# Altium footprint library PcbLib1.PcbLib: 6 footprints
Each footprint in its own frame and in the unit in brackets; x right, y up, seen from the top. Pads: shape width x height; smd on the part's side, far side on the other; paste and mask are expansions set on the pad; w line width, h text height; cw(c..) or ccw(c..) is an arc to the next point about the centre after c.
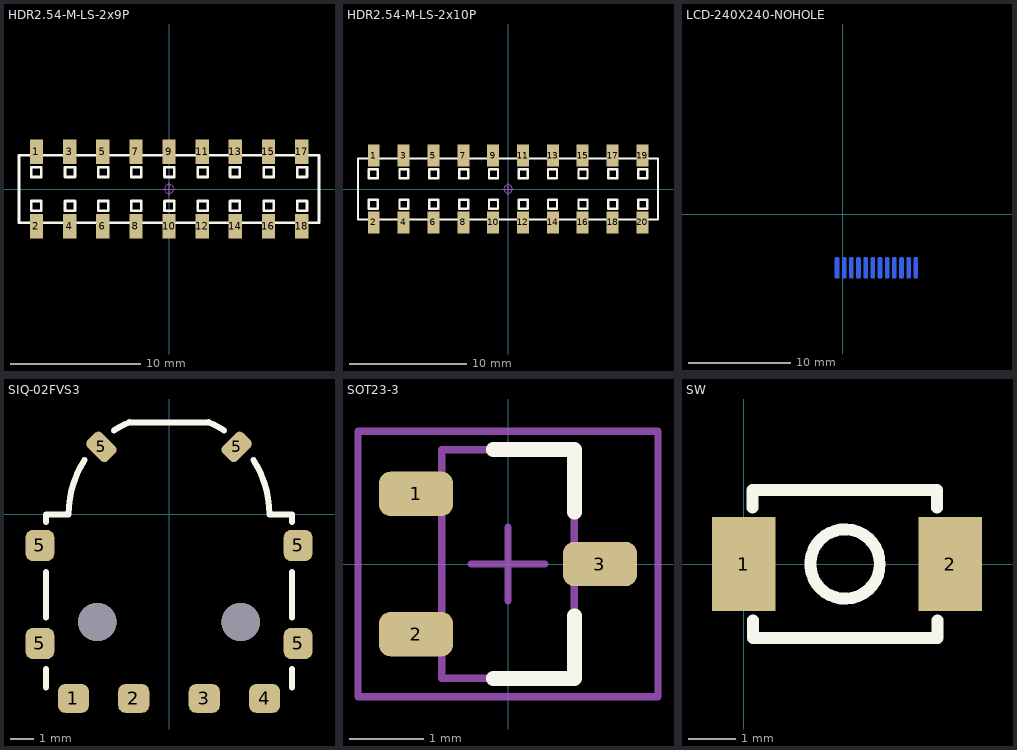
[diagram p0: the footprints below, top view; thin cyan lines are the x and y axes]

## HDR2.54-M-LS-2x9P [mm] "脚距：2.54mm，贴片双排母"
pads (18):
  rect 1.02x1.9 smd: 1(-10.16,2.85) 2(-10.16,-2.85) 3(-7.62,2.85) 4(-7.62,-2.85) 5(-5.08,2.85) 6(-5.08,-2.85) 7(-2.54,2.85) 8(-2.54,-2.85) 9(0,2.85) 10(0,-2.85) 11(2.54,2.85) 12(2.54,-2.85) 13(5.08,2.85) 14(5.08,-2.85) 15(7.62,2.85) 16(7.62,-2.85) 17(10.16,2.85) 18(10.16,-2.85)
Top Overlay:
  lines w0.2: -11.5,-2.6 11.49,-2.6 11.49,2.6 -11.5,2.6 -11.5,-2.6 ; -10.571,-1.681 -10.571,-0.919 -9.809,-0.919 -9.809,-1.681 -10.571,-1.681 ; -10.571,0.919 -10.571,1.681 -9.809,1.681 -9.809,0.919 -10.571,0.919 ; -7.971,-1.681 -7.971,-0.919 -7.209,-0.919 -7.209,-1.681 -7.971,-1.681 ; -7.971,0.919 -7.971,1.681 -7.209,1.681 -7.209,0.919 -7.971,0.919 ; -5.431,-1.681 -4.669,-1.681 -4.669,-0.919 -5.431,-0.919 -5.431,-1.681 ; -5.431,0.919 -4.669,0.919 -4.669,1.681 -5.431,1.681 -5.431,0.919 ; -2.891,-1.681 -2.891,-0.919 -2.129,-0.919 -2.129,-1.681 -2.891,-1.681 ; -2.891,0.919 -2.891,1.681 -2.129,1.681 -2.129,0.919 -2.891,0.919 ; -0.351,-1.681 -0.351,-0.919 0.411,-0.919 0.411,-1.681 -0.351,-1.681 ; -0.351,0.919 -0.351,1.681 0.411,1.681 0.411,0.919 -0.351,0.919 ; 2.189,-1.681 2.189,-0.919 2.951,-0.919 2.951,-1.681 2.189,-1.681 ; 2.189,0.919 2.189,1.681 2.951,1.681 2.951,0.919 2.189,0.919 ; 4.669,-1.681 5.431,-1.681 5.431,-0.919 4.669,-0.919 4.669,-1.681 ; 4.669,0.919 5.431,0.919 5.431,1.681 4.669,1.681 4.669,0.919 ; 7.269,-1.681 8.031,-1.681 8.031,-0.919 7.269,-0.919 7.269,-1.681 ; 7.269,0.919 8.031,0.919 8.031,1.681 7.269,1.681 7.269,0.919 ; 9.809,-1.681 9.809,-0.919 10.571,-0.919 10.571,-1.681 9.809,-1.681 ; 9.809,0.919 9.809,1.681 10.571,1.681 10.571,0.919 9.809,0.919
Mechanical 15:
  circle w0.05: c0,0 r0.35
  lines w0.05: -0.5,0 0.5,0 ; 0,-0.5 0,0.5
3D body "HDR2.54 2x1P_M.STEP": height 5.15, standoff 0, extent -6.38,-3.2 -3.78,3.2
3D body "HDR2.54 2x1P_M.STEP": height 5.15, standoff 0, extent -8.92,-3.2 -6.32,3.2
3D body "HDR2.54 2x1P_M.STEP": height 5.15, standoff 0, extent -11.46,-3.2 -8.86,3.2
3D body "HDR2.54 2x1P_M.STEP": height 5.15, standoff 0, extent -3.84,-3.2 -1.24,3.2
3D body "HDR2.54 2x1P_M.STEP": height 5.15, standoff 0, extent -1.3,-3.2 1.3,3.2
3D body "HDR2.54 2x1P_M.STEP": height 5.15, standoff 0, extent 1.24,-3.2 3.84,3.2
3D body "HDR2.54 2x1P_M.STEP": height 5.15, standoff 0, extent 3.78,-3.2 6.38,3.2
3D body "HDR2.54 2x1P_M.STEP": height 5.15, standoff 0, extent 6.32,-3.2 8.92,3.2
3D body "HDR2.54 2x1P_M.STEP": height 5.15, standoff 0, extent 8.86,-3.2 11.46,3.2

## HDR2.54-M-LS-2x10P [mm] "脚距：2.54mm，贴片双排母"
pads (20):
  rect 1.02x1.9 smd: 1(-11.43,2.85) 2(-11.43,-2.85) 3(-8.89,2.85) 4(-8.89,-2.85) 5(-6.35,2.85) 6(-6.35,-2.85) 7(-3.81,2.85) 8(-3.81,-2.85) 9(-1.27,2.85) 10(-1.27,-2.85) 11(1.27,2.85) 12(1.27,-2.85) 13(3.81,2.85) 14(3.81,-2.85) 15(6.35,2.85) 16(6.35,-2.85) 17(8.89,2.85) 18(8.89,-2.85) 19(11.43,2.85) 20(11.43,-2.85)
Top Overlay:
  lines w0.2: -12.77,-2.6 -12.77,2.6 12.76,2.6 12.76,-2.6 -12.77,-2.6 ; -11.841,-1.681 -11.079,-1.681 -11.079,-0.919 -11.841,-0.919 -11.841,-1.681 ; -11.841,0.919 -11.079,0.919 -11.079,1.681 -11.841,1.681 -11.841,0.919 ; -9.241,-1.681 -8.479,-1.681 -8.479,-0.919 -9.241,-0.919 -9.241,-1.681 ; -9.241,0.919 -8.479,0.919 -8.479,1.681 -9.241,1.681 -9.241,0.919 ; -6.701,-1.681 -6.701,-0.919 -5.939,-0.919 -5.939,-1.681 -6.701,-1.681 ; -6.701,0.919 -6.701,1.681 -5.939,1.681 -5.939,0.919 -6.701,0.919 ; -4.161,-1.681 -3.399,-1.681 -3.399,-0.919 -4.161,-0.919 -4.161,-1.681 ; -4.161,0.919 -3.399,0.919 -3.399,1.681 -4.161,1.681 -4.161,0.919 ; -1.621,-1.681 -0.859,-1.681 -0.859,-0.919 -1.621,-0.919 -1.621,-1.681 ; -1.621,0.919 -0.859,0.919 -0.859,1.681 -1.621,1.681 -1.621,0.919 ; 0.919,-1.681 1.681,-1.681 1.681,-0.919 0.919,-0.919 0.919,-1.681 ; 0.919,0.919 1.681,0.919 1.681,1.681 0.919,1.681 0.919,0.919 ; 3.399,-1.681 3.399,-0.919 4.161,-0.919 4.161,-1.681 3.399,-1.681 ; 3.399,0.919 3.399,1.681 4.161,1.681 4.161,0.919 3.399,0.919 ; 5.999,-1.681 5.999,-0.919 6.761,-0.919 6.761,-1.681 5.999,-1.681 ; 5.999,0.919 5.999,1.681 6.761,1.681 6.761,0.919 5.999,0.919 ; 8.539,-1.681 9.301,-1.681 9.301,-0.919 8.539,-0.919 8.539,-1.681 ; 8.539,0.919 9.301,0.919 9.301,1.681 8.539,1.681 8.539,0.919 ; 11.079,-1.681 11.079,-0.919 11.841,-0.919 11.841,-1.681 11.079,-1.681 ; 11.079,0.919 11.079,1.681 11.841,1.681 11.841,0.919 11.079,0.919
Mechanical 15:
  circle w0.05: c0,0 r0.35
  lines w0.05: -0.5,0 0.5,0 ; 0,-0.5 0,0.5
3D body "HDR2.54 2x1P_M.STEP": height 5.15, standoff 0, extent 10.13,-3.2 12.73,3.2
3D body "HDR2.54 2x1P_M.STEP": height 5.15, standoff 0, extent 7.59,-3.2 10.19,3.2
3D body "HDR2.54 2x1P_M.STEP": height 5.15, standoff 0, extent 5.05,-3.2 7.65,3.2
3D body "HDR2.54 2x1P_M.STEP": height 5.15, standoff 0, extent 2.51,-3.2 5.11,3.2
3D body "HDR2.54 2x1P_M.STEP": height 5.15, standoff 0, extent -0.03,-3.2 2.57,3.2
3D body "HDR2.54 2x1P_M.STEP": height 5.15, standoff 0, extent -2.57,-3.2 0.03,3.2
3D body "HDR2.54 2x1P_M.STEP": height 5.15, standoff 0, extent -5.11,-3.2 -2.51,3.2
3D body "HDR2.54 2x1P_M.STEP": height 5.15, standoff 0, extent -12.73,-3.2 -10.13,3.2
3D body "HDR2.54 2x1P_M.STEP": height 5.15, standoff 0, extent -10.19,-3.2 -7.59,3.2
3D body "HDR2.54 2x1P_M.STEP": height 5.15, standoff 0, extent -7.65,-3.2 -5.05,3.2

## LCD-240X240-NOHOLE [mil]
height 31.5
pads (12):
  rrect50% 15.75x80 smd far side: 1(282,-207) 2(254.44,-207) 3(226.88,-207) 4(199.32,-207) 5(171.76,-207) 6(144.2,-207) 7(116.65,-207) 8(89.09,-207) 9(61.53,-207) 10(33.97,-207) 11(6.41,-207) 12(-21.15,-207)
Bottom Overlay:
  lines w10: -499.3,-481 533.7,-481 533.7,674 -499.3,674 -499.3,-481
3D body "tft.step": height 19.59, standoff -116.35, extent -499.31,-565.47 533.69,673.34

## SIQ-02FVS3 [mm]
height 4.3
pads (10):
  rrect50% 1.3x1.2 smd: 1(-4,-7.7) 2(-1.475,-7.7) 3(1.475,-7.7) 4(4,-7.7)
  rrect50% 1.2x1.3 smd: 5(-5.4,-5.4) 5(-5.4,-1.3) 5(5.4,-5.4) 5(5.4,-1.3)
  rrect50% 0.85x1.2 smd rot 45: 5(-2.828,2.828)
  rrect50% 0.85x1.2 smd rot 135: 5(2.828,2.828)
via 3,-4.5 diameter 1.6 hole 1.6
via -3,-4.5 diameter 1.6 hole 1.6
Top Overlay:
  lines w0.254: -5.15,-7.25 -5.15,-6.477 ; -5.15,-4.318 -5.15,-2.402 ; -5.15,-0.324 -5.15,0 -4.2,0 cw(c0,0) -3.533,2.271 ; -2.298,3.515 cw(c0,0) -1.655,3.86 ; -1.655,3.85 1.655,3.85 ; 1.655,3.86 cw(c0,0) 2.298,3.515 ; 3.533,2.271 cw(c0,0) 4.2,0 5.15,0 5.15,-0.324 ; 5.15,-7.25 5.15,-6.477 ; 5.15,-4.318 5.15,-2.402
3D body "RE.step": height 4.06, standoff -0.44, extent -7.199,-7.5 7.199,7.25

## SOT23-3 [mm] "SOT23, 3-Leads, Body 3.1x3.0mm (max), Pitch 0.95mm, IPC Medium Density"
height 1.2
pads (3):
  rrect50% 1x0.6 smd: 1(-1.246,0.95) 2(-1.246,-0.95) 3(1.246,0)
Top Overlay:
  lines w0.2: -0.2,-1.55 0.9,-1.55 0.9,-0.7 ; -0.2,1.55 0.9,1.55 0.9,0.7
Mechanical 13:
  lines w0.1: -0.9,-1.55 0.9,-1.55 0.9,1.55 -0.9,1.55 -0.9,-1.55
Mechanical 15:
  lines w0.1: -0.5,0 0.5,0 ; 0,-0.5 0,0.5 ; -2.032,-1.8 2.032,-1.8 2.032,1.8 -2.032,1.8 -2.032,-1.8
3D body "SOT-23-3.stp": height 1.2, standoff 0, extent -1.298,-1.45 1.502,1.45

## SW [mm]
pads (2):
  rect 1.35x2 smd mask+0.051: 1(0,0) 2(4.4,0)
Top Overlay:
  circle w0.254: c2.159,0 r0.741
  lines w0.254: 0.184,1.2 0.184,1.569 ; 0.184,1.581 4.121,1.581 ; 0.197,-1.581 4.134,-1.581 ; 0.197,-1.569 0.197,-1.2 ; 4.121,1.2 4.121,1.569 ; 4.134,-1.569 4.134,-1.2
3D body "User Library-342button.STEP": height 2, standoff 0, extent -0.341,-1.476 4.659,1.524